# Altium schematic symbol library MMSZ5231B-TP.SchLib: 1 symbol
Pins are listed as number, name and electrical type; pins without a type are passive.

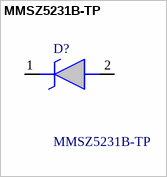
[diagram p0: symbol MMSZ5231B-TP]

## MMSZ5231B-TP
designator D?
Zener Diodes; Manufacturer_Name: MCC; Geometry.Height: 1.35mm; Mouser Part Number: 833-MMSZ5231B-TP; Mouser Price/Stock: https://www.mouser.co.uk/ProductDetail/Micro-Commercial-Components-MCC/MMSZ5231B-TP?qs=ZNK0BnemlqEexvzDQxpNYA%3D%3D; Manufacturer_Part_Number: MMSZ5231B-TP; Datasheet Link: https://mccsemi.com/pdf/Products/MMSZ5221-MMSZ5267(SOD-123).pdf
footprint SOD3716X135N
pins: 1 K, 2 A